# EAGLE library part KLMBG2JETD-B041003 (library KLMBG2JETD-B041003)
embedded MultiMediaCard Ver. 5.1 compatible. SAMSUNG eMMC supports features of eMMC5.1 which are defined in JEDEC Standard - Supported Features : Packed command, Cache, Discard, Sanitize, Power Off Notification, Data Tag, Partition types, Context ID, Real Time Clock, Dynamic Device Capacity, Command Queuing, Enhanced Strobe Mode, Secure Write Protection, HS200, HS400, Field Firmware Update. - Non-supported Features : Large Sector Size (4KB) Full backward compatibility with previous Multi Source: Datasheet <https://www.lcsc.com/datasheet/lcsc_datasheet_2202131900_Samsung-KLMBG2JETD-B041_C2803245.pdf>
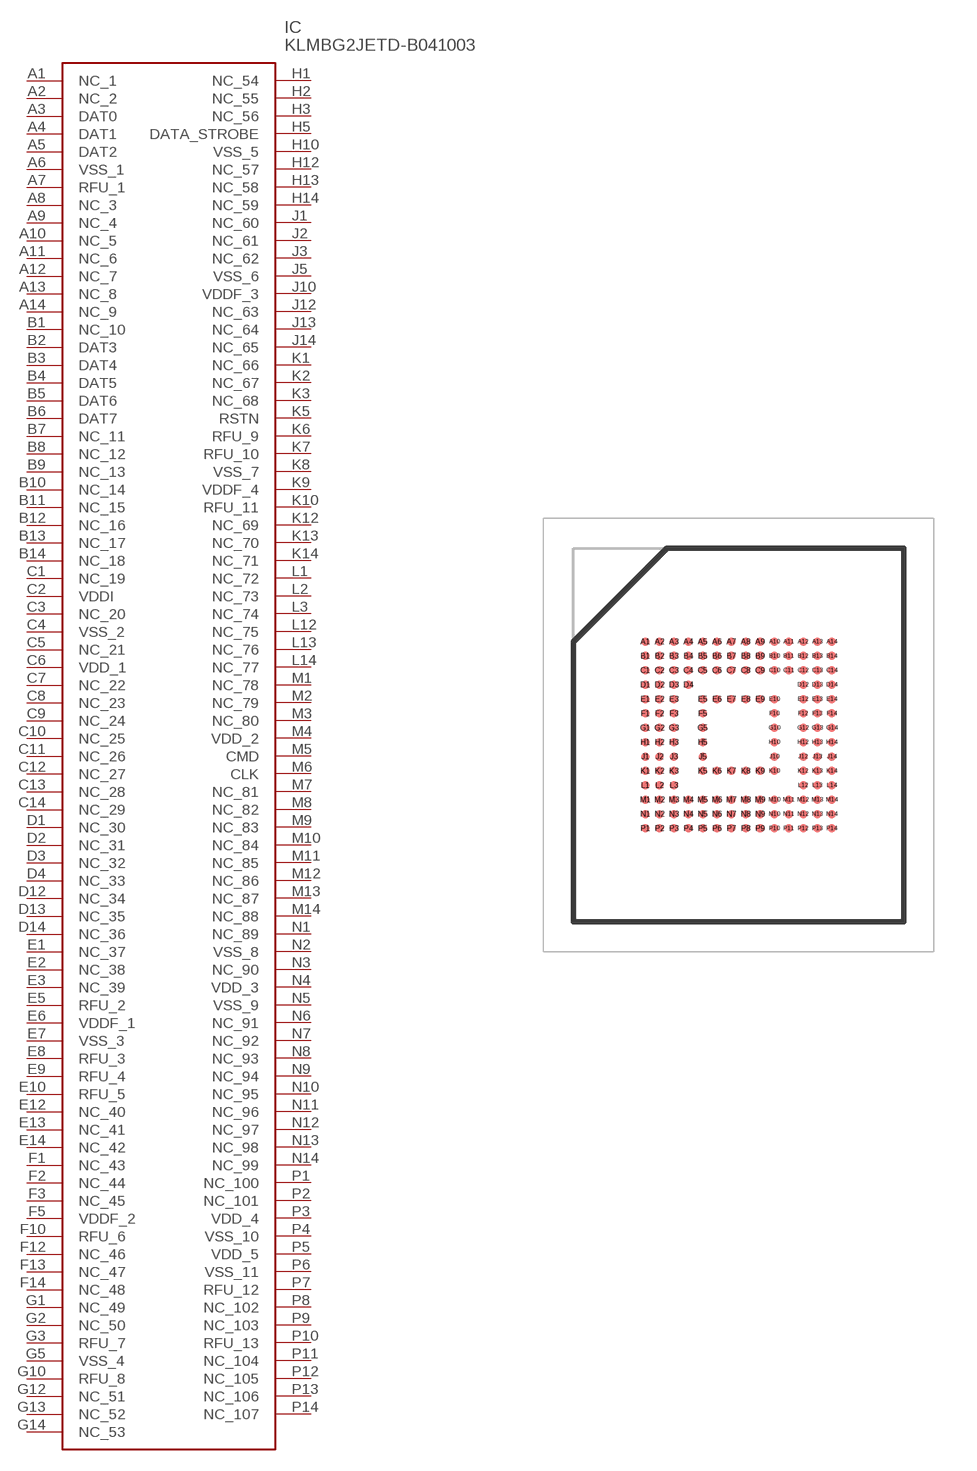
[diagram p0: symbol with the pads of BGA153C50P14X14_1150X1300X80; footprint BGA153C50P14X14_1150X1300X80]

Designator prefix IC

## KLMBG2JETD-B041003 (Arrow_Part_Number: KLMBG2JETD-B041003; Arrow_Price-Stock: https://www.arrow.com/en/products/klmbg2jetd-b041003/samsung-electronics?utm_currency=USD&region=nac; Description: embedded MultiMediaCard Ver. 5.1 compatible. SAMSUNG eMMC supports features of eMMC5.1 which are defined in JEDEC Standard - Supported Features : Packed command, Cache, Discard, Sanitize, Power Off Notification, Data Tag, Partition types, Context ID, Real Time Clock, Dynamic Device Capacity, Command Queuing, Enhanced Strobe Mode, Secure Write Protection, HS200, HS400, Field Firmware Update. - Non-supported Features : Large Sector Size (4KB) Full backward compatibility with previous Multi; Height: 0.8mm; Manufacturer_Name: SAMSUNG; Manufacturer_Part_Number: KLMBG2JETD-B041003)  [BGA153C50P14X14_1150X1300X80]
A1  NC_1
A2  NC_2
A3  DAT0
A4  DAT1
A5  DAT2
A6  VSS_1
A7  RFU_1
A8  NC_3
A9  NC_4
A10  NC_5
A11  NC_6
A12  NC_7
A13  NC_8
A14  NC_9
B1  NC_10
B2  DAT3
B3  DAT4
B4  DAT5
B5  DAT6
B6  DAT7
B7  NC_11
B8  NC_12
B9  NC_13
B10  NC_14
B11  NC_15
B12  NC_16
B13  NC_17
B14  NC_18
C1  NC_19
C2  VDDI
C3  NC_20
C4  VSS_2
C5  NC_21
C6  VDD_1
C7  NC_22
C8  NC_23
C9  NC_24
C10  NC_25
C11  NC_26
C12  NC_27
C13  NC_28
C14  NC_29
D1  NC_30
D2  NC_31
D3  NC_32
D4  NC_33
D12  NC_34
D13  NC_35
D14  NC_36
E1  NC_37
E2  NC_38
E3  NC_39
E5  RFU_2
E6  VDDF_1
E7  VSS_3
E8  RFU_3
E9  RFU_4
E10  RFU_5
E12  NC_40
E13  NC_41
E14  NC_42
F1  NC_43
F2  NC_44
F3  NC_45
F5  VDDF_2
F10  RFU_6
F12  NC_46
F13  NC_47
F14  NC_48
G1  NC_49
G2  NC_50
G3  RFU_7
G5  VSS_4
G10  RFU_8
G12  NC_51
G13  NC_52
G14  NC_53
H1  NC_54
H2  NC_55
H3  NC_56
H5  DATA_STROBE
H10  VSS_5
H12  NC_57
H13  NC_58
H14  NC_59
J1  NC_60
J2  NC_61
J3  NC_62
J5  VSS_6
J10  VDDF_3
J12  NC_63
J13  NC_64
J14  NC_65
K1  NC_66
K2  NC_67
K3  NC_68
K5  RSTN
K6  RFU_9
K7  RFU_10
K8  VSS_7
K9  VDDF_4
K10  RFU_11
K12  NC_69
K13  NC_70
K14  NC_71
L1  NC_72
L2  NC_73
L3  NC_74
L12  NC_75
L13  NC_76
L14  NC_77
M1  NC_78
M2  NC_79
M3  NC_80
M4  VDD_2
M5  CMD
M6  CLK
M7  NC_81
M8  NC_82
M9  NC_83
M10  NC_84
M11  NC_85
M12  NC_86
M13  NC_87
M14  NC_88
N1  NC_89
N2  VSS_8
N3  NC_90
N4  VDD_3
N5  VSS_9
N6  NC_91
N7  NC_92
N8  NC_93
N9  NC_94
N10  NC_95
N11  NC_96
N12  NC_97
N13  NC_98
N14  NC_99
P1  NC_100
P2  NC_101
P3  VDD_4
P4  VSS_10
P5  VDD_5
P6  VSS_11
P7  RFU_12
P8  NC_102
P9  NC_103
P10  RFU_13
P11  NC_104
P12  NC_105
P13  NC_106
P14  NC_107

## Footprint BGA153C50P14X14_1150X1300X80 (pad centres in mm)
11.5mm x 13mm x 0.8mm_
smd 0.29 x 0.29: A1 -3.25,3.25; A2 -2.75,3.25; A3 -2.25,3.25; A4 -1.75,3.25; A5 -1.25,3.25; A6 -0.75,3.25; A7 -0.25,3.25; A8 0.25,3.25; A9 0.75,3.25; A10 1.25,3.25; A11 1.75,3.25; A12 2.25,3.25; A13 2.75,3.25; A14 3.25,3.25; B1 -3.25,2.75; B2 -2.75,2.75; B3 -2.25,2.75; B4 -1.75,2.75; B5 -1.25,2.75; B6 -0.75,2.75; B7 -0.25,2.75; B8 0.25,2.75; B9 0.75,2.75; B10 1.25,2.75; B11 1.75,2.75; B12 2.25,2.75; B13 2.75,2.75; B14 3.25,2.75; C1 -3.25,2.25; C2 -2.75,2.25; C3 -2.25,2.25; C4 -1.75,2.25; C5 -1.25,2.25; C6 -0.75,2.25; C7 -0.25,2.25; C8 0.25,2.25; C9 0.75,2.25; C10 1.25,2.25; C11 1.75,2.25; C12 2.25,2.25; C13 2.75,2.25; C14 3.25,2.25; D1 -3.25,1.75; D2 -2.75,1.75; D3 -2.25,1.75; D4 -1.75,1.75; D12 2.25,1.75; D13 2.75,1.75; D14 3.25,1.75; E1 -3.25,1.25; E2 -2.75,1.25; E3 -2.25,1.25; E5 -1.25,1.25; E6 -0.75,1.25; E7 -0.25,1.25; E8 0.25,1.25; E9 0.75,1.25; E10 1.25,1.25; E12 2.25,1.25; E13 2.75,1.25; E14 3.25,1.25; F1 -3.25,0.75; F2 -2.75,0.75; F3 -2.25,0.75; F5 -1.25,0.75; F10 1.25,0.75; F12 2.25,0.75; F13 2.75,0.75; F14 3.25,0.75; G1 -3.25,0.25; G2 -2.75,0.25; G3 -2.25,0.25; G5 -1.25,0.25; G10 1.25,0.25; G12 2.25,0.25; G13 2.75,0.25; G14 3.25,0.25; H1 -3.25,-0.25; H2 -2.75,-0.25; H3 -2.25,-0.25; H5 -1.25,-0.25; H10 1.25,-0.25; H12 2.25,-0.25; H13 2.75,-0.25; H14 3.25,-0.25; J1 -3.25,-0.75; J2 -2.75,-0.75; J3 -2.25,-0.75; J5 -1.25,-0.75; J10 1.25,-0.75; J12 2.25,-0.75; J13 2.75,-0.75; J14 3.25,-0.75; K1 -3.25,-1.25; K2 -2.75,-1.25; K3 -2.25,-1.25; K5 -1.25,-1.25; K6 -0.75,-1.25; K7 -0.25,-1.25; K8 0.25,-1.25; K9 0.75,-1.25; K10 1.25,-1.25; K12 2.25,-1.25; K13 2.75,-1.25; K14 3.25,-1.25; L1 -3.25,-1.75; L2 -2.75,-1.75; L3 -2.25,-1.75; L12 2.25,-1.75; L13 2.75,-1.75; L14 3.25,-1.75; M1 -3.25,-2.25; M2 -2.75,-2.25; M3 -2.25,-2.25; M4 -1.75,-2.25; M5 -1.25,-2.25; M6 -0.75,-2.25; M7 -0.25,-2.25; M8 0.25,-2.25; M9 0.75,-2.25; M10 1.25,-2.25; M11 1.75,-2.25; M12 2.25,-2.25; M13 2.75,-2.25; M14 3.25,-2.25; N1 -3.25,-2.75; N2 -2.75,-2.75; N3 -2.25,-2.75; N4 -1.75,-2.75; N5 -1.25,-2.75; N6 -0.75,-2.75; N7 -0.25,-2.75; N8 0.25,-2.75; N9 0.75,-2.75; N10 1.25,-2.75; N11 1.75,-2.75; N12 2.25,-2.75; N13 2.75,-2.75; N14 3.25,-2.75; P1 -3.25,-3.25; P2 -2.75,-3.25; P3 -2.25,-3.25; P4 -1.75,-3.25; P5 -1.25,-3.25; P6 -0.75,-3.25; P7 -0.25,-3.25; P8 0.25,-3.25; P9 0.75,-3.25; P10 1.25,-3.25; P11 1.75,-3.25; P12 2.25,-3.25; P13 2.75,-3.25; P14 3.25,-3.25